# Altium footprint library PCB - LEADED - TI FP-DCU0008A-IPC_B.PCBLIB: 1 footprints
Each footprint in its own frame and in the unit in brackets; x right, y up, seen from the top. Pads: shape width x height; smd on the part's side, far side on the other; paste and mask are expansions set on the pad; w line width, h text height; cw(c..) or ccw(c..) is an arc to the next point about the centre after c.
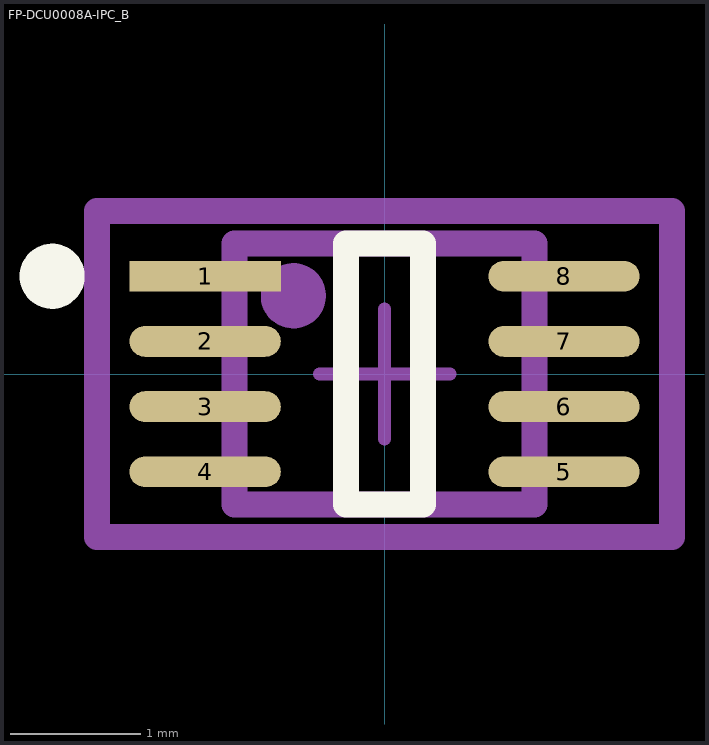
[diagram p0: the footprint, top view; thin cyan lines are the x and y axes]

## FP-DCU0008A-IPC_B [mm]
pads (8):
  rect 1.16x0.237 smd paste+0 mask+0: 1(-1.376,0.75)
  rrect100% 1.16x0.237 smd paste+0 mask+0: 2(-1.376,0.25) 3(-1.376,-0.25) 4(-1.376,-0.75) 5(1.376,-0.75) 6(1.376,-0.25) 7(1.376,0.25) 8(1.376,0.75)
Top Overlay:
  circle w0.25: c-2.55,0.75 r0.125
  lines w0.2: -0.296,-1 -0.296,1 0.296,1 0.296,-1 -0.296,-1
Top Assembly:
  circle w0.25: c-0.7,0.6 r0.125
  lines w0.2: -1.15,-1 -1.15,1 1.15,1 1.15,-1 -1.15,-1
Top Courtyard:
  lines w0.2: -2.206,-1.25 -2.206,1.25 2.206,1.25 2.206,-1.25 -2.206,-1.25
Top Designator:
  text ".Designator" at -2.206,1.438 h1
Top Component Center:
  lines w0.1: -0.5,0 0.5,0 ; 0,-0.5 0,0.5
3D body "IC_Texas_Instruments_SN74LVC3G34DCUR_eec.STEP": height 0.25, standoff 0, extent -2.206,-1.25 2.206,1.25